# Altium schematic symbol library CN_1X13.A1.SchLib: 1 symbol
Pins are listed as number, name and electrical type; pins without a type are passive.

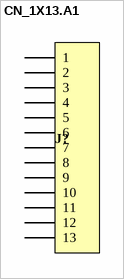
[diagram p0: symbol CN_1X13.A1]

## CN_1X13.A1
designator J?, comment CN_1X13  (value not drawn)
pins: 1, 2, 3, 4, 5, 6, 7, 8, 9, 10, 11, 12, 13